# Altium integrated library ASIC_test_fanout.IntLib: 38 symbols
Pins are listed as number, name and electrical type; pins without a type are passive.

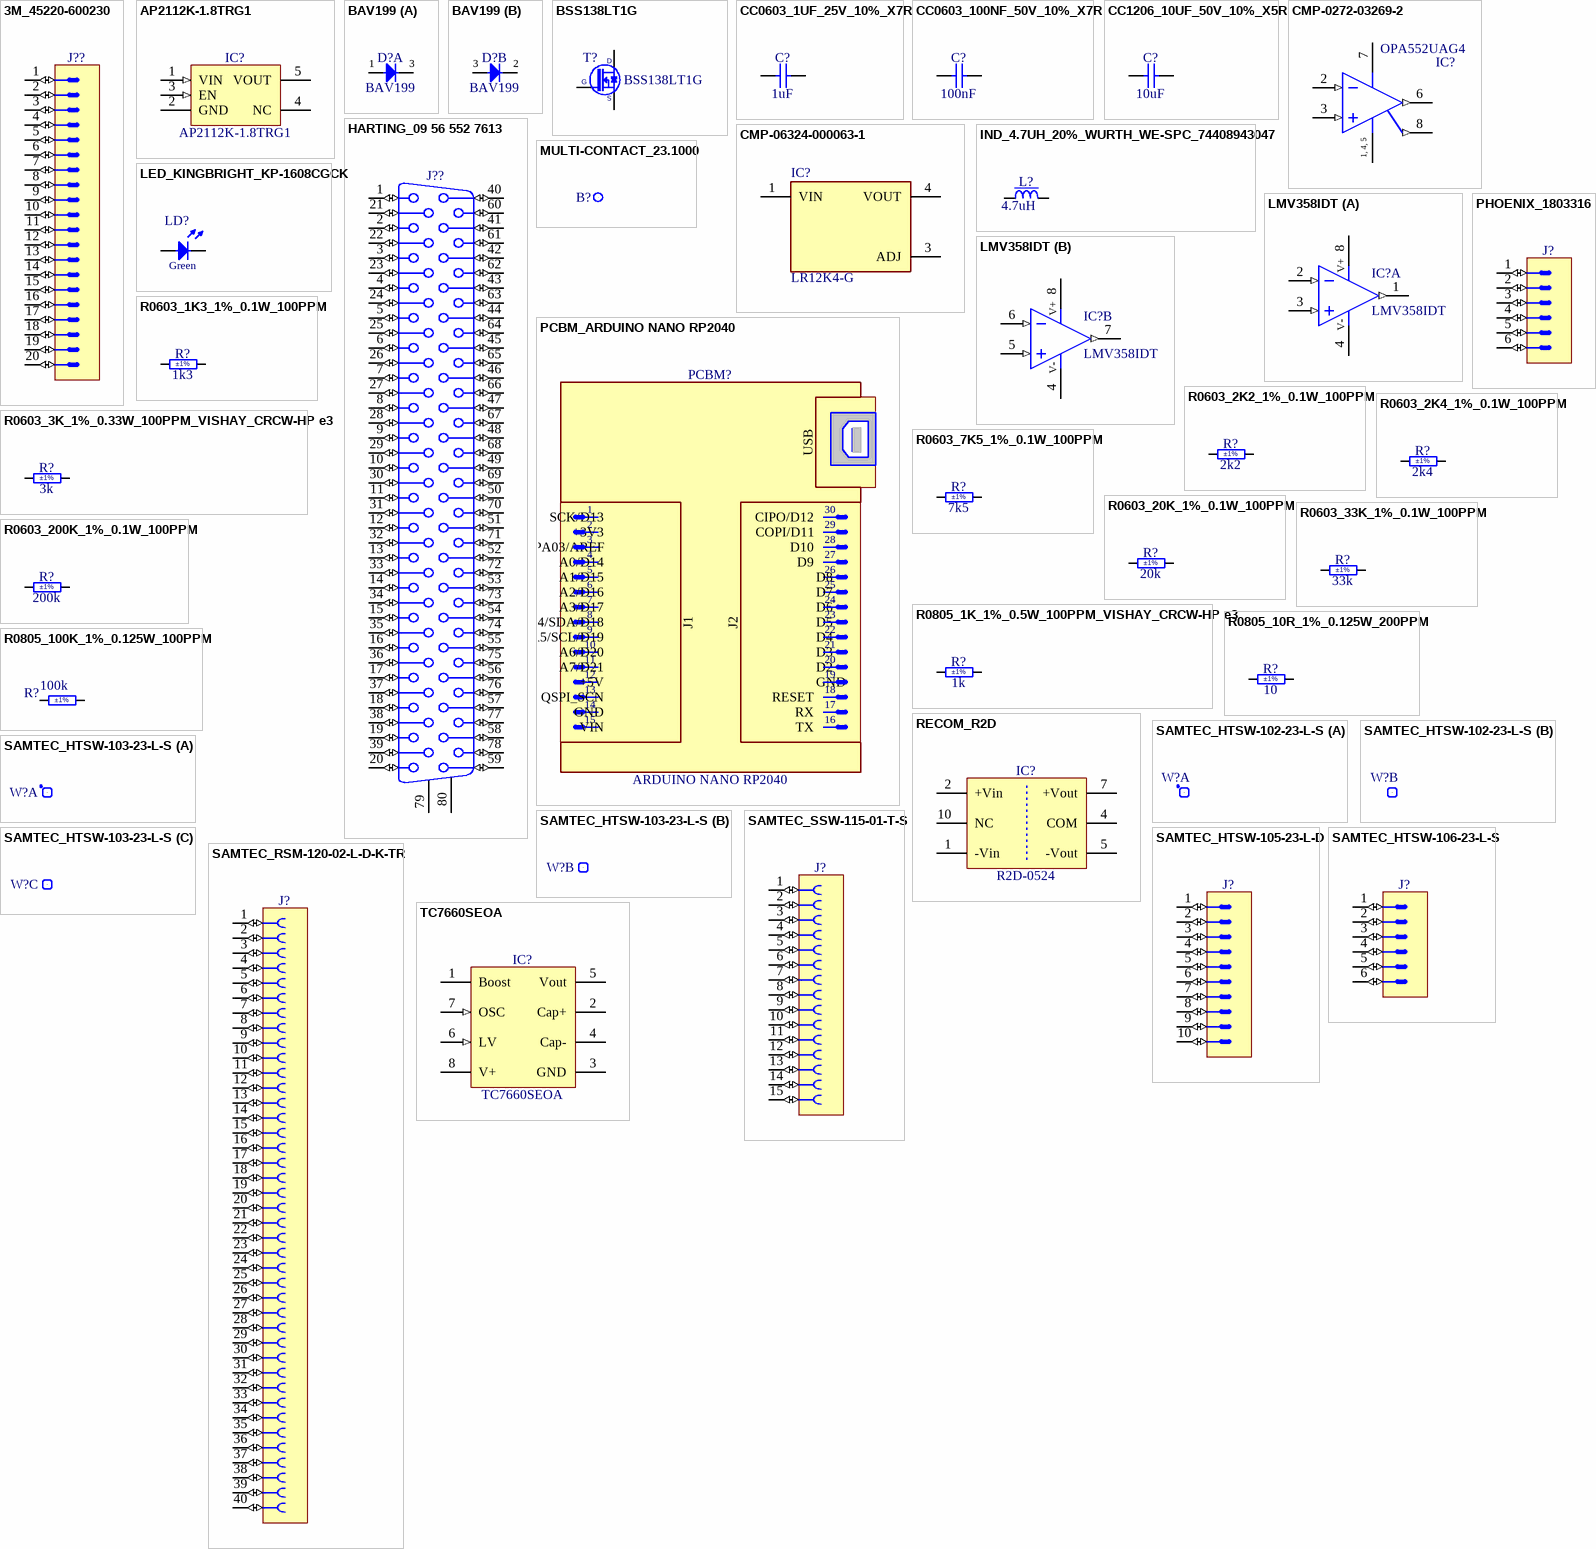
[diagram p0: symbols 3M_45220-600230 to TC7660SEOA]

## 3M_45220-600230
designator J??, comment Header 20  (value not drawn)
Connector 20 Male; Part Number: 3M_45220-600230; Part Description: 20 Contacts - 1.27mm (0.050") Pitch - Shrouded Boardmount Vertical Header Without Latch/Ejectors, 452 Series; Manufacturer: 3M; Manufacturer Part Number: 45220-600230; PressFit: No; Component Kind: Standard; Component Type: Standard; Footprint: 3M_45220-600230; Pin Count: 20; Family: Header 20; Mounted: Yes; Socket: No; SMD: No; Sense: No; Status: None; ComponentHeight: 5.64mm; HelpURL: \\cern.ch\dfs\Applications\Altium\Datasheets\3M_45220-600230.pdf; Author: CERN DEM MR; CreateDate: 15.08.2019; LatestRevisionDate: 15.08.2019
footprint 3M_45220-600230
pins: 1 (io), 2 (io), 3 (io), 4 (io), 5 (io), 6 (io), 7 (io), 8 (io), 9 (io), 10 (io), 11 (io), 12 (io), 13 (io), 14 (io), 15 (io), 16 (io), 17 (io), 18 (io), 19 (io), 20 (io)
1 alternate drawing of the same symbol

## AP2112K-1.8TRG1
designator IC?
600mA CMOS Low Dropout Linear Regulator with Enable; Part Description: 1.8V 600mA CMOS Low Dropout Linear Regulator with Enable; Manufacturer: DIODES INCORPORATED; PressFit: No; Bonding: No; Part Number: AP2112K-1.8TRG1; Component Kind: Standard; Component Type: Standard; Device: AP2112K-1.8TRG1; Footprint: SOT95P285X140-5N; PackageDescription: SOT23, 0.95mm Pitch; 5 Pin, 1.6mm W X 3.0mm L X 1.40mm H body, IPC Medium Density; Manufacturer Part Number: AP2112K-1.8; Pin Count: 5; Case: SOT25; Mounted: Yes; Socket: No; SMD: Yes; Sense: No; ComponentHeight: 1.4mm; HelpURL: \\cern.ch\dfs\Applications\Altium\Datasheets\AP2112K-1.8TRG1.pdf; Author: CERN DEM JLC; CreateDate: 13.06.2018; LatestRevisionDate: 27.06.2022
footprint SOT95P285X140-5N
pins: 1 VIN (in), 2 GND (power), 3 EN (in), 4 NC, 5 VOUT (power)

## BAV199
designator D?
Serial Diode; Part Description: Low-Leakage Double Diode; Manufacturer: NXP SEMICONDUCTORS; Voltage: 75V; Power: 250mW; PressFit: No; Bonding: No; Part Number: BAV199; Component Kind: Standard; Component Type: Standard; Device: BAV199; Footprint: SOT95P240X110-3N; PackageDescription: SOT, 0.95mm Pitch; 3 Pin, 1.40mm W X 3.00mm L X 1.10mm H body, IPC Medium Density; Manufacturer Part Number: BAV199; Pin Count: 3; Case: SOT23-3; Mounted: Yes; Socket: No; SMD: Yes; Sense: No; ComponentHeight: 1.1mm; HelpURL: \\cern.ch\dfs\Applications\Altium\Datasheets\BAV199.pdf; Author: CERN DEM JMW; CreateDate: 21.11.2008; LatestRevisionDate: 21.11.2008
footprint SOT95P240X110-3N
part A pins: 1 A, 3 COMAC
part B pins: 2 C, 3 COMAC

## BSS138LT1G
designator T?
N-CHANNEL MOSFET WITH DIODE; Part Description: 50V, 200mA N-Channel Enhancement Mode Field-Effect Transistor; Manufacturer: ON SEMICONDUCTOR; PressFit: No; Bonding: No; Part Number: BSS138LT1G; Component Kind: Standard; Component Type: Standard; Device: BSS138LT1G; Footprint: SOT95P240X110-3N; PackageDescription: SOT23, 0.95mm Pitch; 3 Pin, 1.40mm W X 3.00mm L X 1.10mm H body, IPC Medium Density; Manufacturer Part Number: BSS138LT1G; Pin Count: 3; Case: SOT23-3; Mounted: Yes; Socket: No; SMD: Yes; Sense: No; ComponentHeight: 1.11mm; HelpURL: \\cern.ch\dfs\Applications\Altium\Datasheets\BSS138LT1G.pdf; Author: CERN DEM JLC; CreateDate: 23.03.2009; LatestRevisionDate: 23.03.2009
footprint SOT95P240X110-3N
pins: 1 G, 2 S, 3 D

## CC0603_1UF_25V_10%_X7R
designator C?, comment 1uF
Non-polarised capacitor; Part Number: CC0603_1UF_25V_10%_X7R; Part Description: SMD Multilayer Chip Ceramic Capacitor; Manufacturer: GENERIC; Manufacturer1 Part Number: GRM188R71E105KA12D; Voltage: 25V; TC: X7R; Tolerance: ±10%; Component Kind: Standard; Component Type: Standard; Footprint: CAPC1608X87N; Pin Count: 2; Value: 1uF; Status: None; Manufacturer Part Number: CC0603_1UF_25V_10%_X7R; Case: 0603; Mounted: Yes; Socket: No; SMD: Yes; Sense: No; Manufacturer1 Example: MURATA; Manufacturer1 ComponentHeight: 0.9mm; HelpURL: \\cern.ch\dfs\Applications\Altium\Datasheets\CC0603_X7R_MURATA.pdf; Author: CERN DEM JLC; CreateDate: 18.01.2011; LatestRevisionDate: 18.01.2011
footprint CAPC1608X87N
pins: 1, 2

## CC0603_100NF_50V_10%_X7R
designator C?, comment 100nF
Non-polarised capacitor; Part Number: CC0603_100NF_50V_10%_X7R; Part Description: SMD Multilayer Chip Ceramic Capacitor; Manufacturer: GENERIC; Manufacturer1 Part Number: 223858615649; Voltage: 50V; TC: X7R; Tolerance: ±10%; Component Kind: Standard; Component Type: Standard; Footprint: CAPC1608X87N; Pin Count: 2; Value: 100nF; Status: Preferred; Manufacturer Part Number: CC0603_100NF_50V_10%_X7R; Case: 0603; Mounted: Yes; Socket: No; SMD: Yes; Sense: No; Manufacturer1 Example: PHYCOMP; Manufacturer1 ComponentHeight: 0.87mm; HelpURL: \\cern.ch\dfs\Applications\Altium\Datasheets\CC0603_X7R_PHYCOMP.pdf; Author: CERN DEM JLC; CreateDate: 03.12.2007; LatestRevisionDate: 03.12.2007
footprint CAPC1608X87N
pins: 1, 2

## CC1206_10UF_50V_10%_X5R
designator C?, comment 10uF
Non-polarised capacitor; Part Number: CC1206_10UF_50V_10%_X5R; Part Description: SMD Multilayer Chip Ceramic Capacitor; Manufacturer: GENERIC; Manufacturer1 Part Number: C3216X5R1H106K160; Voltage: 50V; TC: X5R; Tolerance: ±10%; Component Kind: Standard; Component Type: Standard; Footprint: CAPC3216X180N; Pin Count: 2; Value: 10uF; Status: None; Manufacturer Part Number: CC1206_10UF_50V_10%_X5R; Case: 1206; Mounted: Yes; Socket: No; SMD: Yes; Sense: No; Manufacturer1 Example: TDK; Manufacturer1 ComponentHeight: 1.8mm; HelpURL: \\cern.ch\dfs\Applications\Altium\Datasheets\CC1206_X5R_TDK_C.pdf; Author: CERN DEM WB; CreateDate: 22.06.2021; LatestRevisionDate: 22.06.2021
footprint CAPC3216X180N
pins: 1, 2

## CMP-0272-03269-2
designator IC?, comment OPA552UAG4
High-Voltage, High-Current Operational Amplifier, 8 to 60 V, -55 to 125 degC, 8-pin SOIC (D8), Green (RoHS & no Sb/Br); Manufacturer: Texas Instruments; CMRR(Min)(dB): 92; Sub Family: High Output Current Amplifier (>=50mA), High Supply Voltage Amplifier (>=30V), Precision Amplifier; Rating: Catalog; Iq per channel(Max)(mA): 8.5; Total Supply Voltage(Min)(+5V is 5, +/-5V is 10): 8; IIB(Max)(pA): 100; Total Supply Voltage(Max)(+5V is 5, +/-5V is 10): 60; Packing: TUBE; Slew Rate(Typ)(V/us): 24; Offset Drift(Typ)(uV/C): 7; Number of Channels: 1; GBW(Typ)(MHz): 12; Vio (25C)(Max)(mV): 3; Code_JEDEC: MS-012; PackageReference: D8; ComponentLink3URL: http://www.ti.com/litv/pdf/msoi002j; ComponentLink1Description: Manufacturer URL; PackageDescription: 8-Pin Plastic Small Outline, Body 4.9 x 3.9 mm, Pitch 1.27 mm; Eco-Plan: Green (RoHS & no Sb/Br); PartNumber: OPA552UAG4; DatasheetVersion: SBOS100A; PackageVersion: 4040047-3/M, 06/2011; ComponentLink1URL: http://www.ti.com/; Mounting Technology: Surface Mount; ComponentLink2Description: Datasheet; ComponentLink2URL: http://www.ti.com/lit/ds/symlink/opa552.pdf; ComponentLink3Description: Package Specification
footprint TI-D8_N (SOIC, 8-Leads, Body 4.9x3.9mm, Pitch 1.27mm, IPC Medium Density)
footprint TI-D8_M (SOIC, 8-Leads, Body 4.9x3.9mm, Pitch 1.27mm, IPC Low Density)
footprint TI-D8_L (SOIC, 8-Leads, Body 4.9x3.9mm, Pitch 1.27mm, IPC High Density)
pins: 1 V- (power), 2 IN- (in), 3 IN+ (in), 4 V- (power), 5 V- (power), 6 OUT (out), 7 V+ (power), 8 FLAG (out)
text: 1, 4, 5

## CMP-06324-000063-1
designator IC?, comment LR12K4-G
IC REG LIN POS ADJ 50MA TO252-3; Output Type: Adjustable; Polarity: Positive; Output Current: 100mA; Min Input Voltage: 13.2V; Number of Regulators: 1; Max Output Voltage: 88V; Power Supply Rejection Ratio (PSRR): 60dB; Max Power Dissipation: 2W; Min Output Voltage: 1.2V; Max Input Voltage: 100V; Accuracy: 5%; Package Quantity: 2000; Width: 6.1mm; Lead Free: Lead Free; Mount: Surface Mount; Max Operating Temperature: 85°C; Length: 6.73mm; Min Operating Temperature: -40°C; Series: -; Number of Pins: 3; Case/Package: TO-252-3; Packaging: Tape and Reel; Output Configuration: Positive; Output Voltage: 88V; Height: 2.39mm; Number of Outputs: 1
footprint FP-C04-189-MFG
pins: 1 VIN (power), 3 ADJ, 4 VOUT (power)

## HARTING_09 56 552 7613
designator J??, comment D-Sub 78F  (value not drawn)
Connector D-sub 78 Female; Part Number: HARTING_09 56 552 7613; Part Description: High Density Right Angle Female D-SUB 78 Contacts, with Grounding Board Locks and Female Screw Lock 4-40; Manufacturer: HARTING; Manufacturer Part Number: 09 56 552 7613; PressFit: No; Component Kind: Standard; Component Type: Standard; Footprint: HARTING_09 56 552 7613; Pin Count: 80; Family: D-Sub 78F; Mounted: Yes; Socket: No; SMD: No; Sense: No; Status: None; ComponentHeight: 15.35mm; HelpURL: \\cern.ch\dfs\Applications\Altium\Datasheets\HARTING_09 56 552 7613.pdf; Author: CERN DEM JLC; CreateDate: 11.12.2014; LatestRevisionDate: 11.12.2014
footprint HARTING_09 56 552 7613
pins: 1 (io), 2 (io), 3 (io), 4 (io), 5 (io), 6 (io), 7 (io), 8 (io), 9 (io), 10 (io), 11 (io), 12 (io), 13 (io), 14 (io), 15 (io), 16 (io), 17 (io), 18 (io), 19 (io), 20 (io), 21 (io), 22 (io), 23 (io), 24 (io), 25 (io), 26 (io), 27 (io), 28 (io), 29 (io), 30 (io), 31 (io), 32 (io), 33 (io), 34 (io), 35 (io), 36 (io), 37 (io), 38 (io), 39 (io), 40 (io), 41 (io), 42 (io), 43 (io), 44 (io), 45 (io), 46 (io), 47 (io), 48 (io), 49 (io), 50 (io), 51 (io), 52 (io), 53 (io), 54 (io), 55 (io), 56 (io), 57 (io), 58 (io), 59 (io), 60 (io), 61 (io), 62 (io), 63 (io), 64 (io), 65 (io), 66 (io), 67 (io), 68 (io), 69 (io), 70 (io), 71 (io), 72 (io), 73 (io), 74 (io), 75 (io), 76 (io), 77 (io), 78 (io), 79, 80
1 alternate drawing of the same symbol

## IND_4.7UH_20%_WURTH_WE-SPC_74408943047
designator L?, comment 4.7uH
Inductor With Core; Part Number: IND_4.7UH_20%_WURTH_WE-SPC_74408943047; Part Description: SMD Shielded Power Inductor (WE-SPC Series); Manufacturer: WURTH ELEKTRONIK; Manufacturer Part Number: 74408943047; Power: 2.2A; Resistance: 0.045R; Tolerance: ±20%; Component Kind: Standard; Component Type: Standard; Footprint: IND_WURTH_WE-SPC-4838; Pin Count: 2; Value: 4.7uH; Mounted: Yes; Socket: No; SMD: Yes; Sense: No; ComponentHeight: 4.1mm; HelpURL: \\cern.ch\dfs\Applications\Altium\Datasheets\IND_WURTH_WE-SPC_74408943047.pdf; Author: CERN DEM JLC; CreateDate: 24.11.2014; LatestRevisionDate: 05.07.2017
footprint IND_WURTH_WE-SPC-4838
pins: 1, 2

## LED_KINGBRIGHT_KP-1608CGCK
designator LD?, comment Green
LED Green 1C 2A; Part Number: LED_KINGBRIGHT_KP-1608CGCK; Part Description: 1.6x0.8mm SMD Chip Green LED Lamp; Manufacturer: KINGBRIGHT; Manufacturer Part Number: KP-1608CGCK; PressFit: No; Bonding: No; Component Kind: Standard; Component Type: Standard; Color: Green; Footprint: LED_KINGBRIGHT_KP-1608CGCK; PackageDescription: SMT Green LED, Case 0603, Body L 1.60mm x W 0.80mm x H 1.10mm; Pin Count: 2; Case: 0603; Mounted: Yes; Socket: No; SMD: Yes; Sense: No; ComponentHeight: 1.1mm; HelpURL: \\cern.ch\dfs\Applications\Altium\Datasheets\LED_KINGBRIGHT_KP-1608CGCK.pdf; Author: CERN DEM HF; CreateDate: 01.10.2021; LatestRevisionDate: 01.10.2021
footprint LED_KINGBRIGHT_KP-1608CGCK
pins: 1 C, 2 A
1 alternate drawing of the same symbol

## LMV358IDT
designator IC?
Dual Operational Amplifier; Part Description: Dual General Purpose, Low Voltage, Tiny Pack Comparator; Manufacturer: ST MICROELECTRONICS; PressFit: No; Bonding: No; Part Number: LMV358IDT; Component Kind: Standard; Component Type: Standard; Device: LMV358IDT; Footprint: SOIC127P600X175-8N; PackageDescription: SOIC 8, Pitch 1.27mm - Body 4x5mm, IPC Medium Density; Manufacturer Part Number: LMV358IDT; Pin Count: 8; Case: SOIC8; Mounted: Yes; Socket: No; SMD: Yes; Sense: No; ComponentHeight: 1.75mm; Author: CERN DEM HF; HelpURL: \\cern.ch\dfs\Applications\Altium\Datasheets\LMV358.pdf; CreateDate: 21.12.2023; LatestRevisionDate: 21.12.2023
footprint SOIC127P600X175-8N
pins on every part: 4 V- (power), 8 V+ (power)
part A pins: 1 OUT (out), 2 IN- (in), 3 IN+ (in)
part B pins: 5 IN+ (in), 6 IN- (in), 7 OUT (out)
1 alternate drawing of the same symbol

## MULTI-CONTACT_23.1000
designator B?, comment Socket  (value not drawn)
Single Terminal Socket; Part Number: MULTI-CONTACT_23.1000; Part Description: Machined Brass Uninsulated Ø 2 mm Rigid Socket, LB2-A Type; Manufacturer: MULTI-CONTACT; Manufacturer Part Number: 23.1000; PressFit: No; Component Kind: Standard; Component Type: Standard; Footprint: MULTI-CONTACT_23.1000; Pin Count: 1; Family: Socket; Mounted: Yes; Socket: No; SMD: No; Sense: No; Status: None; ComponentHeight: 2mm; HelpURL: \\cern.ch\dfs\Applications\Altium\Datasheets\MULTI-CONTACT_23.1000.pdf; Author: CERN DEM JLC; CreateDate: 20.03.2012; LatestRevisionDate: 20.03.2012
footprint MULTI-CONTACT_23.1000
pins: 1 (io)

## PCBM_ARDUINO NANO RP2040
designator PCBM?, comment ARDUINO NANO RP2040
Arduino NANO Printed Circuit Board Module; Part Number: PCBM_ARDUINO NANO RP2040; Part Description: Arduino NANO RP2040 Printed Circuit Board Module; PressFit: No; Bonding: No; Component Kind: Accessories; Component Type: Standard; Device: ARDUINO NANO RP2040; Footprint: PCBM_ARDUINO NANO RP2040; PackageDescription: Microcontroller Board Arduino NANO RP2040; Manufacturer: ARDUINO; Manufacturer Part Number: ARDUINO NANO RP2040; Pin Count: 0; Mounted: Yes; Socket: No; SMD: No; Sense: No; ComponentHeight: 15.4mm; Author: CERN DEM HF; HelpURL: \\cern.ch\dfs\Applications\Altium\Datasheets\PCBM_ARDUINO NANO RP2040.pdf; CreateDate: 06.09.2022; LatestRevisionDate: 06.09.2022
footprint PCBM_ARDUINO NANO RP2040
text: USB; 1; 30; SCK/D13; CIPO/D12; 2; 29; +3V3; COPI/D11; 3; 28; PA03/AREF; D10; 4; 27; A0/D14; D9; 5; 26; A1/D15; D8; 6; 25; A2/D16; D7; 7; 24; A3/D17; D6; 8; 23; A4/SDA/D18; J1; J2; D5; 9; 22; A5/SCL/D19; D4; 10; 21; A6/D20; D3; 11; 20; A7/D21; D2; 12; 19; +5V; GND; 13; 18; QSPI_SCN; RESET; 14; 17; RX; 15; 16; VIN; TX

## PHOENIX_1803316
designator J?
Connector 6 Male; Part Number: PHOENIX_1803316; Part Description: 8A 160 V, Pitch: 3.81mm, 6 Positions  Right Angled Header; Manufacturer: PHOENIX CONTACT; Manufacturer Part Number: 1803316 (MC 1,5/ 6-G-3,81); PressFit: No; Component Kind: Standard; Component Type: Standard; Footprint: PHOENIX_1803316; Pin Count: 6; Mounted: Yes; Socket: No; SMD: No; Sense: No; Status: None; ComponentHeight: 7.25mm; HelpURL: \\cern.ch\dfs\Applications\Altium\Datasheets\PHOENIX_1803316.pdf; Author: CERN DEM JLC; CreateDate: 06.05.2014; LatestRevisionDate: 06.05.2014
footprint PHOENIX_1803316
pins: 1 (io), 2 (io), 3 (io), 4 (io), 5 (io), 6 (io)
1 alternate drawing of the same symbol

## R0603_1K3_1%_0.1W_100PPM
designator R?, comment 1k3  Tolerance: ±1%
Resistor - 1%; Part Number: R0603_1K3_1%_0.1W_100PPM; Part Description: General Purpose Thick Film Chip Resistor; Manufacturer: GENERIC; Manufacturer1 Part Number: NRC06F1301TRF; Power: 0.1W; TC: ±100ppm/°C; PressFit: No; Component Kind: Standard; Component Type: Standard; Footprint: RESC1608X55N; Pin Count: 2; Value: 1k3; Status: Preferred; Manufacturer Part Number: R0603_1K3_1%_0.1W_100PPM; Case: 0603; Mounted: Yes; Sense: No; Socket: No; SMD: Yes; Manufacturer1 Example: NIC COMPONENT; Manufacturer1 ComponentHeight: 0.55mm; HelpURL: \\cern.ch\dfs\Applications\Altium\Datasheets\R0603_NIC_NRC.pdf; Author: CERN DEM JLC; CreateDate: 03.12.2007; LatestRevisionDate: 13.03.2008
footprint RESC1608X55N
pins: 1, 2

## R0603_2K2_1%_0.1W_100PPM
designator R?, comment 2k2  Tolerance: ±1%
Resistor - 1%; Part Number: R0603_2K2_1%_0.1W_100PPM; Part Description: General Purpose Thick Film Chip Resistor; Manufacturer: GENERIC; Manufacturer1 Part Number: NRC06F2201TRF; Power: 0.1W; TC: ±100ppm/°C; PressFit: No; Component Kind: Standard; Component Type: Standard; Footprint: RESC1608X55N; Pin Count: 2; Value: 2k2; Status: Preferred; Manufacturer Part Number: R0603_2K2_1%_0.1W_100PPM; Case: 0603; Mounted: Yes; Sense: No; Socket: No; SMD: Yes; Manufacturer1 Example: NIC COMPONENT; Manufacturer1 ComponentHeight: 0.55mm; HelpURL: \\cern.ch\dfs\Applications\Altium\Datasheets\R0603_NIC_NRC.pdf; Author: CERN DEM JLC; CreateDate: 03.12.2007; LatestRevisionDate: 13.03.2008
footprint RESC1608X55N
pins: 1, 2

## R0603_2K4_1%_0.1W_100PPM
designator R?, comment 2k4  Tolerance: ±1%
Resistor - 1%; Part Number: R0603_2K4_1%_0.1W_100PPM; Part Description: General Purpose Thick Film Chip Resistor; Manufacturer: GENERIC; Manufacturer1 Part Number: NRC06F2401TRF; Power: 0.1W; TC: ±100ppm/°C; PressFit: No; Component Kind: Standard; Component Type: Standard; Footprint: RESC1608X55N; Pin Count: 2; Value: 2k4; Status: Preferred; Manufacturer Part Number: R0603_2K4_1%_0.1W_100PPM; Case: 0603; Mounted: Yes; Sense: No; Socket: No; SMD: Yes; Manufacturer1 Example: NIC COMPONENT; Manufacturer1 ComponentHeight: 0.55mm; HelpURL: \\cern.ch\dfs\Applications\Altium\Datasheets\R0603_NIC_NRC.pdf; Author: CERN DEM JLC; CreateDate: 03.12.2007; LatestRevisionDate: 13.03.2008
footprint RESC1608X55N
pins: 1, 2

## R0603_3K_1%_0.33W_100PPM_VISHAY_CRCW-HP e3
designator R?, comment 3k  Tolerance: ±1%
Resistor - 1%; Part Number: R0603_3K_1%_0.33W_100PPM_VISHAY_CRCW-HP e3; Part Description: Pulse Proof, High Power Thick Film Chip Resistor; Manufacturer: VISHAY DRALORIC; Manufacturer Part Number: CRCW06033K00FKEAHP; Power: 0.33W; TC: ±100ppm/°C; Voltage: 75V; PressFit: No; Component Kind: Standard; Component Type: Standard; Footprint: RESC1608X55N; Pin Count: 2; Value: 3k; Status: None; Case: 0603; Mounted: Yes; Sense: No; Socket: No; SMD: Yes; ComponentHeight: 0.55mm; HelpURL: \\cern.ch\dfs\Applications\Altium\Datasheets\R0603_VISHAY_CRCW-HP e3.pdf; Author: CERN DEM BC; CreateDate: 01.03.2021; LatestRevisionDate: 01.03.2021
footprint RESC1608X55N
pins: 1, 2

## R0603_7K5_1%_0.1W_100PPM
designator R?, comment 7k5  Tolerance: ±1%
Resistor - 1%; Part Number: R0603_7K5_1%_0.1W_100PPM; Part Description: General Purpose Thick Film Chip Resistor; Manufacturer: GENERIC; Manufacturer1 Part Number: NRC06F7501TRF; Power: 0.1W; TC: ±100ppm/°C; PressFit: No; Component Kind: Standard; Component Type: Standard; Footprint: RESC1608X55N; Pin Count: 2; Value: 7k5; Status: Preferred; Manufacturer Part Number: R0603_7K5_1%_0.1W_100PPM; Case: 0603; Mounted: Yes; Sense: No; Socket: No; SMD: Yes; Manufacturer1 Example: NIC COMPONENT; Manufacturer1 ComponentHeight: 0.55mm; HelpURL: \\cern.ch\dfs\Applications\Altium\Datasheets\R0603_NIC_NRC.pdf; Author: CERN DEM JLC; CreateDate: 03.12.2007; LatestRevisionDate: 13.03.2008
footprint RESC1608X55N
pins: 1, 2

## R0603_20K_1%_0.1W_100PPM
designator R?, comment 20k  Tolerance: ±1%
Resistor - 1%; Part Number: R0603_20K_1%_0.1W_100PPM; Part Description: General Purpose Thick Film Chip Resistor; Manufacturer: GENERIC; Manufacturer1 Part Number: NRC06F2002TRF; Power: 0.1W; TC: ±100ppm/°C; PressFit: No; Component Kind: Standard; Component Type: Standard; Footprint: RESC1608X55N; Pin Count: 2; Value: 20k; Status: Preferred; Manufacturer Part Number: R0603_20K_1%_0.1W_100PPM; Case: 0603; Mounted: Yes; Sense: No; Socket: No; SMD: Yes; Manufacturer1 Example: NIC COMPONENT; Manufacturer1 ComponentHeight: 0.55mm; HelpURL: \\cern.ch\dfs\Applications\Altium\Datasheets\R0603_NIC_NRC.pdf; Author: CERN DEM JLC; CreateDate: 03.12.2007; LatestRevisionDate: 13.03.2008
footprint RESC1608X55N
pins: 1, 2

## R0603_33K_1%_0.1W_100PPM
designator R?, comment 33k  Tolerance: ±1%
Resistor - 1%; Part Number: R0603_33K_1%_0.1W_100PPM; Part Description: General Purpose Thick Film Chip Resistor; Manufacturer: GENERIC; Manufacturer1 Part Number: NRC06F3302TRF; Power: 0.1W; TC: ±100ppm/°C; PressFit: No; Component Kind: Standard; Component Type: Standard; Footprint: RESC1608X55N; Pin Count: 2; Value: 33k; Status: Preferred; Manufacturer Part Number: R0603_33K_1%_0.1W_100PPM; Case: 0603; Mounted: Yes; Sense: No; Socket: No; SMD: Yes; Manufacturer1 Example: NIC COMPONENT; Manufacturer1 ComponentHeight: 0.55mm; HelpURL: \\cern.ch\dfs\Applications\Altium\Datasheets\R0603_NIC_NRC.pdf; Author: CERN DEM JLC; CreateDate: 03.12.2007; LatestRevisionDate: 13.03.2008
footprint RESC1608X55N
pins: 1, 2

## R0603_200K_1%_0.1W_100PPM
designator R?, comment 200k  Tolerance: ±1%
Resistor - 1%; Part Number: R0603_200K_1%_0.1W_100PPM; Part Description: General Purpose Thick Film Chip Resistor; Manufacturer: GENERIC; Manufacturer1 Part Number: NRC06F2003TRF; Power: 0.1W; TC: ±100ppm/°C; PressFit: No; Component Kind: Standard; Component Type: Standard; Footprint: RESC1608X55N; Pin Count: 2; Value: 200k; Status: Preferred; Manufacturer Part Number: R0603_200K_1%_0.1W_100PPM; Case: 0603; Mounted: Yes; Sense: No; Socket: No; SMD: Yes; Manufacturer1 Example: NIC COMPONENT; Manufacturer1 ComponentHeight: 0.55mm; HelpURL: \\cern.ch\dfs\Applications\Altium\Datasheets\R0603_NIC_NRC.pdf; Author: CERN DEM JLC; CreateDate: 03.12.2007; LatestRevisionDate: 13.03.2008
footprint RESC1608X55N
pins: 1, 2

## R0805_1K_1%_0.5W_100PPM_VISHAY_CRCW-HP e3
designator R?, comment 1k  Tolerance: ±1%
Resistor - 1%; Part Number: R0805_1K_1%_0.5W_100PPM_VISHAY_CRCW-HP e3; Part Description: 150V, Pulse Proof, High Power Thick Film Chip Resistor; Manufacturer: VISHAY DRALORIC; Manufacturer Part Number: CRCW08051K00FKEAHP; Manufacturer1 Part Number: VISHAY; Power: 0.33W; TC: ±100ppm/°C; PressFit: No; Component Kind: Standard; Component Type: Standard; Footprint: RESC2012X60N; Pin Count: 2; Value: 1k; Status: None; Case: 0805; Mounted: Yes; Sense: No; Socket: No; SMD: Yes; Manufacturer1 ComponentHeight: 0.6mm; HelpURL: \\cern.ch\dfs\Applications\Altium\Datasheets\R0805_VISHAY_CRCW-HP e3.pdf; Author: CERN DEM JLC; CreateDate: 16.06.2010; LatestRevisionDate: 16.06.2010
footprint RESC2012X60N
pins: 1, 2

## R0805_10R_1%_0.125W_200PPM
designator R?, comment 10  Tolerance: ±1%
Resistor - 1%; Part Number: R0805_10R_1%_0.125W_200PPM; Part Description: General Purpose Thick Film Chip Resistor; Manufacturer: GENERIC; Manufacturer1 Part Number: NRC10F10R0TRF; Power: 0.125W; TC: ±200ppm/°C; PressFit: No; Component Kind: Standard; Component Type: Standard; Footprint: RESC2012X60N; Pin Count: 2; Value: 10; Status: Preferred; Manufacturer Part Number: R0805_10R_1%_0.125W_200PPM; Case: 0805; Mounted: Yes; Sense: No; Socket: No; SMD: Yes; Manufacturer1 Example: NIC COMPONENT; Manufacturer1 ComponentHeight: 0.6mm; HelpURL: \\cern.ch\dfs\Applications\Altium\Datasheets\R0805_NIC_NRC.pdf; Author: CERN DEM JLC; CreateDate: 03.12.2007; LatestRevisionDate: 24.06.2009
footprint RESC2012X60N
pins: 1, 2

## R0805_100K_1%_0.125W_100PPM
designator R?, comment 100k  Tolerance: ±1%
Resistor - 1%; Part Number: R0805_100K_1%_0.125W_100PPM; Part Description: General Purpose Thick Film Chip Resistor; Manufacturer: GENERIC; Manufacturer1 Part Number: NRC10F1003TRF; Power: 0.125W; TC: ±100ppm/°C; PressFit: No; Component Kind: Standard; Component Type: Standard; Footprint: RESC2012X60N; Pin Count: 2; Value: 100k; Status: Preferred; Manufacturer Part Number: R0805_100K_1%_0.125W_100PPM; Case: 0805; Mounted: Yes; Sense: No; Socket: No; SMD: Yes; Manufacturer1 Example: NIC COMPONENT; Manufacturer1 ComponentHeight: 0.6mm; HelpURL: \\cern.ch\dfs\Applications\Altium\Datasheets\R0805_NIC_NRC.pdf; Author: CERN DEM JLC; CreateDate: 03.12.2007; LatestRevisionDate: 13.03.2008
footprint RESC2012X60N
pins: 1, 2

## RECOM_R2D
designator IC?, comment R2D-0524
RECOM, R2D Series, Dual Output DCDC Converter; Part Number: RECOM_R2D; Part Description: 5VDC to ±24VDC, Iout ±42mA, 3kVDC Isolated, 2W DC-DC Converter; PressFit: No; Bonding: No; Component Kind: Standard; Component Type: Standard; Device: R2D-0524; Footprint: DCDC_RECOM_R2D; PackageDescription: R2D Series 6 Pin of 10 SMD Package Version, DC/DC Converter,  Body 10.7X15.24mm; Manufacturer: RECOM; Manufacturer Part Number: R2D-0524; Pin Count: 6; Mounted: Yes; Socket: No; SMD: Yes; Sense: No; ComponentHeight: 9mm; HelpURL: \\cern.ch\dfs\Applications\Altium\Datasheets\R2D-0524.pdf; Author: CERN DEM JLC; CreateDate: 10.08.2017; LatestRevisionDate: 10.08.2017
footprint DCDC_RECOM_R2D
pins: 1 -Vin (power), 2 +Vin (power), 4 COM (power), 5 -Vout (power), 7 +Vout (power), 10 NC

## SAMTEC_HTSW-102-23-L-S
designator W?, comment Header 2  (value not drawn)
2 Mini Wire-Wrap Contact Strip Header; Part Number: SAMTEC_HTSW-102-23-L-S; Part Description: 2 Contacts, Pitch 2.54mm, Single Row  Through Mount Straight Header (Post Lead 5.84mm, Tail Lead 2.92mm, Insulator 2.54mm); Manufacturer: SAMTEC; Manufacturer Part Number: HTSW-102-23-L-S; PressFit: No; Status Comment: High Temperature; Component Kind: Standard; Component Type: Standard; Footprint: SAMTEC_HTSW-102-23-L-S; Pin Count: 2; Family: Header 2; Mounted: Yes; Socket: No; SMD: No; Sense: No; Status: Preferred; ComponentHeight: 8.38mm; HelpURL: \\cern.ch\dfs\Applications\Altium\Datasheets\SAMTEC_HTSW-102-23-L-S.pdf; Author: CERN DEM JLC; CreateDate: 22.02.2018; LatestRevisionDate: 22.02.2018
footprint SAMTEC_HTSW-102-23-L-S
part A pins: 1 (io)
part B pins: 2 (io)

## SAMTEC_HTSW-103-23-L-S
designator W?, comment Header 3  (value not drawn)
3 Mini Wire-Wrap Contact Strip Header; Part Number: SAMTEC_HTSW-103-23-L-S; Part Description: 3 Contacts, Pitch 2.54mm, Single Row Through Mount Straight Header (Post Lead 5.84mm, Tail Lead 2.92mm, Insulator 2.54mm); Manufacturer: SAMTEC; Manufacturer Part Number: HTSW-103-23-L-S; PressFit: No; Status Comment: High Temperature; Component Kind: Standard; Component Type: Standard; Footprint: SAMTEC_HTSW-103-23-L-S; Pin Count: 3; Family: Header 3; Mounted: Yes; Socket: No; SMD: No; Sense: No; Status: Preferred; ComponentHeight: 8.38mm; HelpURL: \\cern.ch\dfs\Applications\Altium\Datasheets\SAMTEC_HTSW-103-23-L-S.pdf; Author: CERN DEM JLC; CreateDate: 22.02.2018; LatestRevisionDate: 22.02.2018
footprint SAMTEC_HTSW-103-23-L-S
part A pins: 1 (io)
part B pins: 2 (io)
part C pins: 3 (io)

## SAMTEC_HTSW-105-23-L-D
designator J?, comment Header 10  (value not drawn)
Connector 10 Male; Part Number: SAMTEC_HTSW-105-23-L-D; Part Description: 10 Contacts, Pitch 2.54mm, Dual Row Through Mount Straight Header (Post Lead 5.84mm, Tail Lead 2.92mm, Insulator 2.54mm); Manufacturer: SAMTEC; Manufacturer Part Number: HTSW-105-23-L-D; PressFit: No; Status Comment: High Temperature; Component Kind: Standard; Component Type: Standard; Footprint: SAMTEC_HTSW-105-23-L-D; Pin Count: 10; Family: Header 10; Mounted: Yes; Socket: No; SMD: No; Sense: No; Status: Preferred; ComponentHeight: 8.38mm; HelpURL: \\cern.ch\dfs\Applications\Altium\Datasheets\SAMTEC_HTSW-105-23-L-D.pdf; Author: CERN DEM JLC; CreateDate: 13.02.2018; LatestRevisionDate: 13.02.2018
footprint SAMTEC_HTSW-105-23-L-D
pins: 1 (io), 2 (io), 3 (io), 4 (io), 5 (io), 6 (io), 7 (io), 8 (io), 9 (io), 10 (io)
1 alternate drawing of the same symbol

## SAMTEC_HTSW-106-23-L-S
designator J?, comment Header 6  (value not drawn)
Connector 6 Male; Part Number: SAMTEC_HTSW-106-23-L-S; Part Description: 6 Contacts, Pitch 2.54mm, Single Row Through Mount Straight Header (Post Lead = 5.84mm, Tail Lead 2.92mm, Insulator 2.54mm); Manufacturer: SAMTEC; Manufacturer Part Number: HTSW-106-23-L-S; PressFit: No; Status Comment: High Temperature; Component Kind: Standard; Component Type: Standard; Footprint: SAMTEC_HTSW-106-23-L-S; Pin Count: 6; Family: Header 6; Mounted: Yes; Socket: No; SMD: No; Sense: No; Status: Preferred; ComponentHeight: 8.38mm; HelpURL: \\cern.ch\dfs\Applications\Altium\Datasheets\SAMTEC_HTSW-106-23-L-S.pdf; Author: CERN DEM JLC; CreateDate: 22.02.2018; LatestRevisionDate: 22.02.2018
footprint SAMTEC_HTSW-106-23-L-S
pins: 1 (io), 2 (io), 3 (io), 4 (io), 5 (io), 6 (io)
1 alternate drawing of the same symbol

## SAMTEC_RSM-120-02-L-D-K-TR
designator J?, comment Socket 40  (value not drawn)
Connector 40 Female; Part Number: SAMTEC_RSM-120-02-L-D-K-TR; Part Description: 40 Contacts, Pitch 1.27mm, Dual Row Straight SMD Micro Socket; Manufacturer: SAMTEC; Manufacturer Part Number: RSM-120-02-L-D-K; PressFit: No; Component Kind: Standard; Component Type: Standard; Footprint: SAMTEC_RSM-120-02-L-D-K-TR; Pin Count: 40; Family: Socket 40; Mounted: Yes; Socket: No; SMD: Yes; Sense: No; Status: None; ComponentHeight: 6.1mm; HelpURL: \\cern.ch\dfs\Applications\Altium\Datasheets\SAMTEC_RSM-120-02-L-D-K-TR.pdf; Author: CERN DEM JLC; CreateDate: 09.01.2013; LatestRevisionDate: 09.01.2023; System: Connector
footprint SAMTEC_RSM-120-02-L-D-K-TR
pins: 1 (io), 2 (io), 3 (io), 4 (io), 5 (io), 6 (io), 7 (io), 8 (io), 9 (io), 10 (io), 11 (io), 12 (io), 13 (io), 14 (io), 15 (io), 16 (io), 17 (io), 18 (io), 19 (io), 20 (io), 21 (io), 22 (io), 23 (io), 24 (io), 25 (io), 26 (io), 27 (io), 28 (io), 29 (io), 30 (io), 31 (io), 32 (io), 33 (io), 34 (io), 35 (io), 36 (io), 37 (io), 38 (io), 39 (io), 40 (io)
1 alternate drawing of the same symbol

## SAMTEC_SSW-115-01-T-S
designator J?, comment Socket 15  (value not drawn)
Connector 15 Female; Part Number: SAMTEC_SSW-115-01-T-S; Part Description: 15 Contacts, Pitch 2.54mm, Single Row Through Mount Straight Socket (Lead Length 2.64mm); Manufacturer: SAMTEC; Manufacturer Part Number: SSW-115-01-T-S; PressFit: No; Component Kind: Standard; Component Type: Standard; Footprint: SAMTEC_SSW-115-01-X-S; Pin Count: 15; Family: Socket 15; Mounted: Yes; Socket: No; SMD: No; Sense: No; Status: None; ComponentHeight: 8.51mm; HelpURL: \\cern.ch\dfs\Applications\Altium\Datasheets\SAMTEC_SSW.pdf; Author: CERN DEM HF; CreateDate: 08.08.2023; LatestRevisionDate: 08.08.2023
footprint SAMTEC_SSW-115-01-X-S
pins: 1 (io), 2 (io), 3 (io), 4 (io), 5 (io), 6 (io), 7 (io), 8 (io), 9 (io), 10 (io), 11 (io), 12 (io), 13 (io), 14 (io), 15 (io)
1 alternate drawing of the same symbol

## TC7660SEOA
designator IC?
Super Charge Pump DC-to-DC Voltage Converter; Manufacturer: MICROCHIP TECHNOLOGY; PressFit: No; Bonding: No; Part Number: TC7660SEOA; Component Kind: Standard; Component Type: Standard; Device: TC7660SEOA; Footprint: SOIC127P600X175-8N; PackageDescription: SOIC 8, Pitch 1.27mm, Body 4x5mm, IPC Medium Density; Part Description: Super Charge Pump DC-to-DC Voltage Converter; Manufacturer Part Number: TC7660SEOA; Pin Count: 8; Case: SOIC8; Mounted: Yes; Socket: No; SMD: Yes; Sense: No; ComponentHeight: 1.75mm; HelpURL: \\cern.ch\dfs\Applications\Altium\Datasheets\TC7660S.pdf; Author: CERN DEM HF; CreateDate: 28.02.2024; LatestRevisionDate: 28.02.2024
footprint SOIC127P600X175-8N
pins: 1 Boost, 2 Cap+, 3 GND (power), 4 Cap-, 5 Vout (power), 6 LV (in), 7 OSC (in), 8 V+ (power)

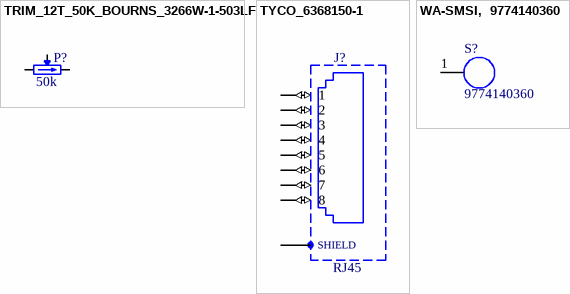
[diagram p1: symbols TRIM_12T_50K_BOURNS_3266W-1-503LF to WA-SMSI,  9774140360]

## TRIM_12T_50K_BOURNS_3266W-1-503LF
designator P?, comment 50k
Trimming Potentiometer; Part Number: TRIM_12T_50K_BOURNS_3266W-1-503LF; Part Description: 12 Turn Trimming Potentiometer (Top Adjustment); Manufacturer: BOURNS; Manufacturer Part Number: 3266W-1-503LF; Power: 0.25W; TC: ±100ppm/°C; Tolerance: ±10%; PressFit: No; Component Kind: Standard; Component Type: Standard; Footprint: TRIM_BOURNS_3266W; Pin Count: 3; Value: 50k; Case: 3266W; Mounted: Yes; Socket: No; SMD: No; Sense: No; ComponentHeight: 7.75mm; HelpURL: \\cern.ch\dfs\Applications\Altium\Datasheets\TRIM_BOURNS_3266W.pdf; Author: CERN DEM JMW; CreateDate: 29.07.2009; LatestRevisionDate: 28.11.2012
footprint TRIM_BOURNS_3266W
pins: 1 CCW, 2 W, 3 CW

## TYCO_6368150-1
designator J?, comment RJ45
Connector RJ45 + Shield; Part Number: TYCO_6368150-1; Part Description: 1 Port, RJ45 Connector,  8 Positions, Shielded, Straight, Category 5; Manufacturer: TYCO ELECTRONICS; Manufacturer Part Number: 6368150-1; PressFit: No; Component Kind: Standard; Component Type: Standard; Footprint: TYCO_6368150-1; Pin Count: 10; Family: RJ45; Mounted: Yes; Socket: No; SMD: No; Sense: No; Status: None; ComponentHeight: 17.02mm; HelpURL: \\cern.ch\dfs\Applications\Altium\Datasheets\TYCO_6368150-1.pdf; Author: CERN DEM MR; CreateDate: 18.06.2019; LatestRevisionDate: 18.06.2019
footprint TYCO_6368150-1
pins: 1 (io), 2 (io), 3 (io), 4 (io), 5 (io), 6 (io), 7 (io), 8 (io), SHIELD

## WA-SMSI,  9774140360
designator S?, comment 9774140360
WA-SMSI SMD Steel Spacer with internal Thread; Manufacturer: Wurth Elektronik; partNo: 9774140360; ComponentLink1Description: Manufacturer; ComponentLink1URL: http://www.we-online.de; Created by: Baojun Chen; Created Date: 20.Oct.2015; ComponentLink2Description: Datasheet; ComponentLink2URL: http://katalog.we-online.de/em/datasheet/9774140360.pdf
footprint 9774140360 (SMD Steel Spacer with internal Thread)
pins: 1